# Altium schematic symbol library TXB0102DCUR.SchLib: 1 symbol
Pins are listed as number, name and electrical type; pins without a type are passive.

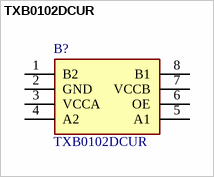
[diagram p0: symbol TXB0102DCUR]

## TXB0102DCUR
designator B?
2-Bit Bidirectional Voltage-Level Shifter with Auto Direction Sensing and +/-15-kV ESD Protect; Manufacturer_Name: Texas Instruments; Geometry.Height: 0.9mm; Manufacturer_Part_Number: TXB0102DCUR; Mouser Part Number: 595-TXB0102DCUR; Mouser Price/Stock: https://www.mouser.co.uk/ProductDetail/Texas-Instruments/TXB0102DCUR?qs=0OHPnBYoB%2FkdfwFK6IXZ5Q%3D%3D; Arrow Part Number: TXB0102DCUR; Arrow Price/Stock: https://www.arrow.com/en/products/txb0102dcur/texas-instruments?utm_currency=USD&region=europe; Datasheet Link: http://www.ti.com/lit/gpn/txb0102
footprint SOP50P310X90-8N
pins: 1 B2, 2 GND, 3 VCCA, 4 A2, 5 A1, 6 OE, 7 VCCB, 8 B1